# Altium integrated library Linear Technology Power Management uModule Regulators.IntLib: 166 symbols (part 20 of 67)
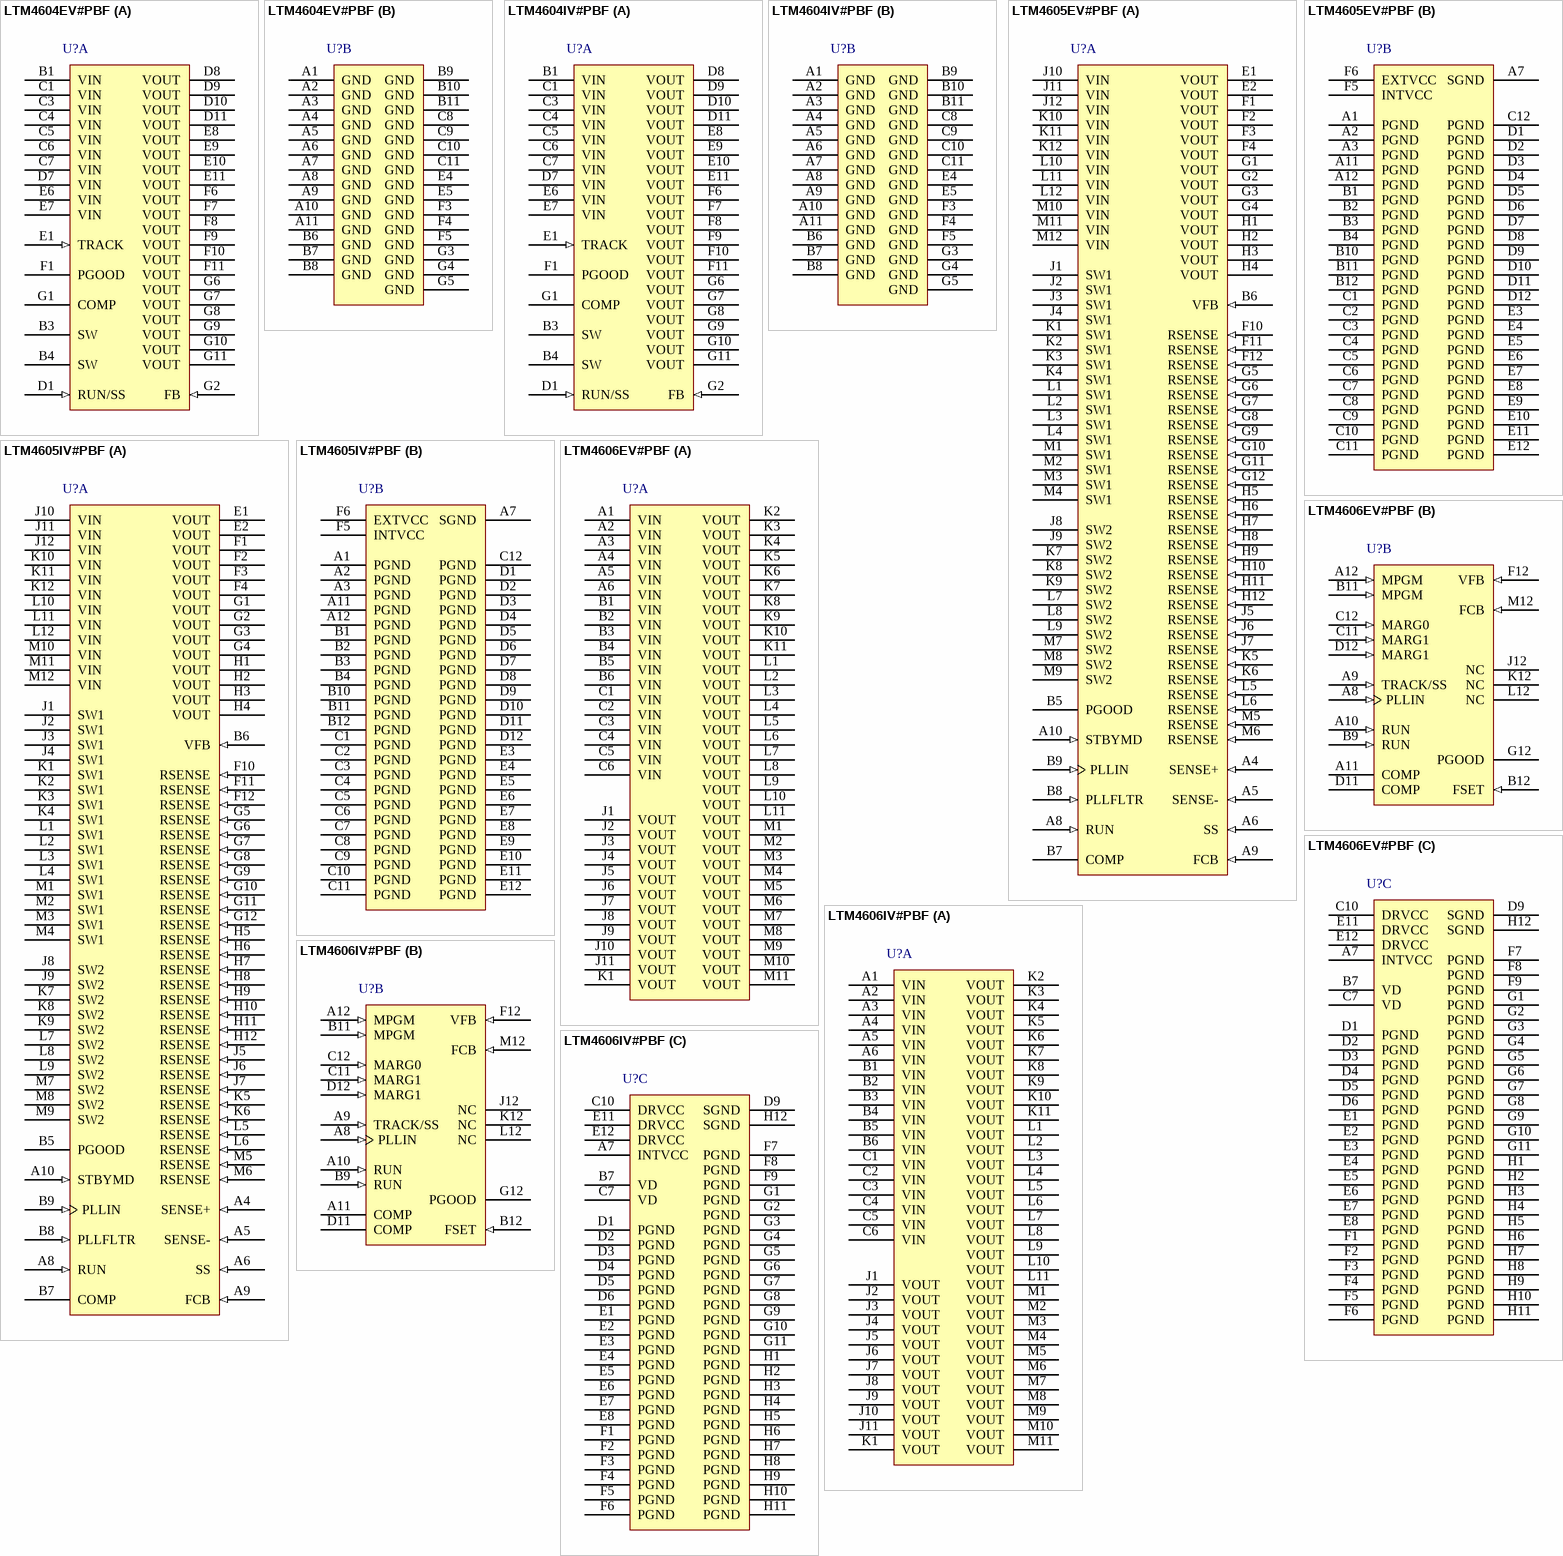
[diagram p46: symbols LTM4604EV#PBF to LTM4606IV#PBF]

## LTM4606IV#PBF
designator U?
Ultralow EMI 28 VIN, 6 A DC/DC uModule Regulator, 133-pin LGA, -40 to 125 degC, Pb-Free, Tray; Manufacturer: Linear Technology; PartNumber: LTM4606IV#PBF; Extended Temp: E, I, MP; Frequency Sync Range: 650kHz - 1MHz; Frequency(kHz): 800; Ishutdown(uA): 22; Isupply(mA): 1.5; Number of Outputs: 1; Output Current(A): 6; Switch Current(A): 10; Synchronous: yes; Topology: Buck; Tracking: no; Vin Max(V): 28; Vin Min(V): 4.5; Vout Max(V): 5; Vout Min(V): 0.6; DatasheetVersion: Rev. B; PackageVersion: Rev. A, 02/2013; PackageReference: LGA-133; PackageDescription: 133-Pin LGA, Body 15 x 15 mm, Pitch 1.27 mm; Supplier 1: Digi-Key; Supplier Part Number 1: LTM4606IV#PBF-ND; Supplier 2: Farnell; Supplier Part Number 2: 1647768; Supplier 3: Newark; Supplier Part Number 3: 02P7634; Packing: Tray; RoHS: TRUE; Mounting Technology: Surface Mount; Code_JEDEC: MO-222; ComponentLink1Description: Manufacturer URL; ComponentLink1URL: http://www.linear.com/; ComponentLink2Description: Datasheet; ComponentLink2URL: http://cds.linear.com/docs/en/datasheet/4606fb.pdf; ComponentLink3Description: Package Specification; ComponentLink3URL: http://cds.linear.com/docs/en/packaging/05081766_A_lga133.pdf
footprint LT-LGA-133-05-08-1766_V (LGA, 133-Leads, Body 15x15mm, Pitch 1.27mm)
part A pins: A1 VIN (power) "VIN (Bank 1): Power Input Pins. Apply input voltage between these pins and PGND pins. Recommend placing input decoupling capacitance directly between VIN pins and PGND pins.", A2 VIN (power) "VIN (Bank 1): Power Input Pins. Apply input voltage between these pins and PGND pins. Recommend placing input decoupling capacitance directly between VIN pins and PGND pins.", A3 VIN (power) "VIN (Bank 1): Power Input Pins. Apply input voltage between these pins and PGND pins. Recommend placing input decoupling capacitance directly between VIN pins and PGND pins.", A4 VIN (power) "VIN (Bank 1): Power Input Pins. Apply input voltage between these pins and PGND pins. Recommend placing input decoupling capacitance directly between VIN pins and PGND pins.", A5 VIN (power) "VIN (Bank 1): Power Input Pins. Apply input voltage between these pins and PGND pins. Recommend placing input decoupling capacitance directly between VIN pins and PGND pins.", A6 VIN (power) "VIN (Bank 1): Power Input Pins. Apply input voltage between these pins and PGND pins. Recommend placing input decoupling capacitance directly between VIN pins and PGND pins.", B1 VIN (power) "VIN (Bank 1): Power Input Pins. Apply input voltage between these pins and PGND pins. Recommend placing input decoupling capacitance directly between VIN pins and PGND pins.", B2 VIN (power) "VIN (Bank 1): Power Input Pins. Apply input voltage between these pins and PGND pins. Recommend placing input decoupling capacitance directly between VIN pins and PGND pins.", B3 VIN (power) "VIN (Bank 1): Power Input Pins. Apply input voltage between these pins and PGND pins. Recommend placing input decoupling capacitance directly between VIN pins and PGND pins.", B4 VIN (power) "VIN (Bank 1): Power Input Pins. Apply input voltage between these pins and PGND pins. Recommend placing input decoupling capacitance directly between VIN pins and PGND pins.", B5 VIN (power) "VIN (Bank 1): Power Input Pins. Apply input voltage between these pins and PGND pins. Recommend placing input decoupling capacitance directly between VIN pins and PGND pins.", B6 VIN (power) "VIN (Bank 1): Power Input Pins. Apply input voltage between these pins and PGND pins. Recommend placing input decoupling capacitance directly between VIN pins and PGND pins.", C1 VIN (power) "VIN (Bank 1): Power Input Pins. Apply input voltage between these pins and PGND pins. Recommend placing input decoupling capacitance directly between VIN pins and PGND pins.", C2 VIN (power) "VIN (Bank 1): Power Input Pins. Apply input voltage between these pins and PGND pins. Recommend placing input decoupling capacitance directly between VIN pins and PGND pins.", C3 VIN (power) "VIN (Bank 1): Power Input Pins. Apply input voltage between these pins and PGND pins. Recommend placing input decoupling capacitance directly between VIN pins and PGND pins.", C4 VIN (power) "VIN (Bank 1): Power Input Pins. Apply input voltage between these pins and PGND pins. Recommend placing input decoupling capacitance directly between VIN pins and PGND pins.", C5 VIN (power) "VIN (Bank 1): Power Input Pins. Apply input voltage between these pins and PGND pins. Recommend placing input decoupling capacitance directly between VIN pins and PGND pins.", C6 VIN (power) "VIN (Bank 1): Power Input Pins. Apply input voltage between these pins and PGND pins. Recommend placing input decoupling capacitance directly between VIN pins and PGND pins.", J1 VOUT (power) "VOUT (Bank 3): Power Output Pins. Apply output load between these pins and PGND pins. Recommend placing output decoupling capacitance directly between these pins and PGND pins (see figure below).", J2 VOUT (power) "VOUT (Bank 3): Power Output Pins. Apply output load between these pins and PGND pins. Recommend placing output decoupling capacitance directly between these pins and PGND pins (see figure below).", J3 VOUT (power) "VOUT (Bank 3): Power Output Pins. Apply output load between these pins and PGND pins. Recommend placing output decoupling capacitance directly between these pins and PGND pins (see figure below).", J4 VOUT (power) "VOUT (Bank 3): Power Output Pins. Apply output load between these pins and PGND pins. Recommend placing output decoupling capacitance directly between these pins and PGND pins (see figure below).", J5 VOUT (power) "VOUT (Bank 3): Power Output Pins. Apply output load between these pins and PGND pins. Recommend placing output decoupling capacitance directly between these pins and PGND pins (see figure below).", J6 VOUT (power) "VOUT (Bank 3): Power Output Pins. Apply output load between these pins and PGND pins. Recommend placing output decoupling capacitance directly between these pins and PGND pins (see figure below).", J7 VOUT (power) "VOUT (Bank 3): Power Output Pins. Apply output load between these pins and PGND pins. Recommend placing output decoupling capacitance directly between these pins and PGND pins (see figure below).", J8 VOUT (power) "VOUT (Bank 3): Power Output Pins. Apply output load between these pins and PGND pins. Recommend placing output decoupling capacitance directly between these pins and PGND pins (see figure below).", J9 VOUT (power) "VOUT (Bank 3): Power Output Pins. Apply output load between these pins and PGND pins. Recommend placing output decoupling capacitance directly between these pins and PGND pins (see figure below).", J10 VOUT (power) "VOUT (Bank 3): Power Output Pins. Apply output load between these pins and PGND pins. Recommend placing output decoupling capacitance directly between these pins and PGND pins (see figure below).", J11 VOUT (power) "VOUT (Bank 3): Power Output Pins. Apply output load between these pins and PGND pins. Recommend placing output decoupling capacitance directly between these pins and PGND pins (see figure below).", K1 VOUT (power) "VOUT (Bank 3): Power Output Pins. Apply output load between these pins and PGND pins. Recommend placing output decoupling capacitance directly between these pins and PGND pins (see figure below).", K2 VOUT (power) "VOUT (Bank 3): Power Output Pins. Apply output load between these pins and PGND pins. Recommend placing output decoupling capacitance directly between these pins and PGND pins (see figure below).", K3 VOUT (power) "VOUT (Bank 3): Power Output Pins. Apply output load between these pins and PGND pins. Recommend placing output decoupling capacitance directly between these pins and PGND pins (see figure below).", K4 VOUT (power) "VOUT (Bank 3): Power Output Pins. Apply output load between these pins and PGND pins. Recommend placing output decoupling capacitance directly between these pins and PGND pins (see figure below).", K5 VOUT (power) "VOUT (Bank 3): Power Output Pins. Apply output load between these pins and PGND pins. Recommend placing output decoupling capacitance directly between these pins and PGND pins (see figure below).", K6 VOUT (power) "VOUT (Bank 3): Power Output Pins. Apply output load between these pins and PGND pins. Recommend placing output decoupling capacitance directly between these pins and PGND pins (see figure below).", K7 VOUT (power) "VOUT (Bank 3): Power Output Pins. Apply output load between these pins and PGND pins. Recommend placing output decoupling capacitance directly between these pins and PGND pins (see figure below).", K8 VOUT (power) "VOUT (Bank 3): Power Output Pins. Apply output load between these pins and PGND pins. Recommend placing output decoupling capacitance directly between these pins and PGND pins (see figure below).", K9 VOUT (power) "VOUT (Bank 3): Power Output Pins. Apply output load between these pins and PGND pins. Recommend placing output decoupling capacitance directly between these pins and PGND pins (see figure below).", K10 VOUT (power) "VOUT (Bank 3): Power Output Pins. Apply output load between these pins and PGND pins. Recommend placing output decoupling capacitance directly between these pins and PGND pins (see figure below).", K11 VOUT (power) "VOUT (Bank 3): Power Output Pins. Apply output load between these pins and PGND pins. Recommend placing output decoupling capacitance directly between these pins and PGND pins (see figure below).", L1 VOUT (power) "VOUT (Bank 3): Power Output Pins. Apply output load between these pins and PGND pins. Recommend placing output decoupling capacitance directly between these pins and PGND pins (see figure below).", L2 VOUT (power) "VOUT (Bank 3): Power Output Pins. Apply output load between these pins and PGND pins. Recommend placing output decoupling capacitance directly between these pins and PGND pins (see figure below).", L3 VOUT (power) "VOUT (Bank 3): Power Output Pins. Apply output load between these pins and PGND pins. Recommend placing output decoupling capacitance directly between these pins and PGND pins (see figure below).", L4 VOUT (power) "VOUT (Bank 3): Power Output Pins. Apply output load between these pins and PGND pins. Recommend placing output decoupling capacitance directly between these pins and PGND pins (see figure below).", L5 VOUT (power) "VOUT (Bank 3): Power Output Pins. Apply output load between these pins and PGND pins. Recommend placing output decoupling capacitance directly between these pins and PGND pins (see figure below).", L6 VOUT (power) "VOUT (Bank 3): Power Output Pins. Apply output load between these pins and PGND pins. Recommend placing output decoupling capacitance directly between these pins and PGND pins (see figure below).", L7 VOUT (power) "VOUT (Bank 3): Power Output Pins. Apply output load between these pins and PGND pins. Recommend placing output decoupling capacitance directly between these pins and PGND pins (see figure below).", L8 VOUT (power) "VOUT (Bank 3): Power Output Pins. Apply output load between these pins and PGND pins. Recommend placing output decoupling capacitance directly between these pins and PGND pins (see figure below).", L9 VOUT (power) "VOUT (Bank 3): Power Output Pins. Apply output load between these pins and PGND pins. Recommend placing output decoupling capacitance directly between these pins and PGND pins (see figure below).", L10 VOUT (power) "VOUT (Bank 3): Power Output Pins. Apply output load between these pins and PGND pins. Recommend placing output decoupling capacitance directly between these pins and PGND pins (see figure below).", L11 VOUT (power) "VOUT (Bank 3): Power Output Pins. Apply output load between these pins and PGND pins. Recommend placing output decoupling capacitance directly between these pins and PGND pins (see figure below).", M1 VOUT (power) "VOUT (Bank 3): Power Output Pins. Apply output load between these pins and PGND pins. Recommend placing output decoupling capacitance directly between these pins and PGND pins (see figure below).", M2 VOUT (power) "VOUT (Bank 3): Power Output Pins. Apply output load between these pins and PGND pins. Recommend placing output decoupling capacitance directly between these pins and PGND pins (see figure below).", M3 VOUT (power) "VOUT (Bank 3): Power Output Pins. Apply output load between these pins and PGND pins. Recommend placing output decoupling capacitance directly between these pins and PGND pins (see figure below).", M4 VOUT (power) "VOUT (Bank 3): Power Output Pins. Apply output load between these pins and PGND pins. Recommend placing output decoupling capacitance directly between these pins and PGND pins (see figure below).", M5 VOUT (power) "VOUT (Bank 3): Power Output Pins. Apply output load between these pins and PGND pins. Recommend placing output decoupling capacitance directly between these pins and PGND pins (see figure below).", M6 VOUT (power) "VOUT (Bank 3): Power Output Pins. Apply output load between these pins and PGND pins. Recommend placing output decoupling capacitance directly between these pins and PGND pins (see figure below).", M7 VOUT (power) "VOUT (Bank 3): Power Output Pins. Apply output load between these pins and PGND pins. Recommend placing output decoupling capacitance directly between these pins and PGND pins (see figure below).", M8 VOUT (power) "VOUT (Bank 3): Power Output Pins. Apply output load between these pins and PGND pins. Recommend placing output decoupling capacitance directly between these pins and PGND pins (see figure below).", M9 VOUT (power) "VOUT (Bank 3): Power Output Pins. Apply output load between these pins and PGND pins. Recommend placing output decoupling capacitance directly between these pins and PGND pins (see figure below).", M10 VOUT (power) "VOUT (Bank 3): Power Output Pins. Apply output load between these pins and PGND pins. Recommend placing output decoupling capacitance directly between these pins and PGND pins (see figure below).", M11 VOUT (power) "VOUT (Bank 3): Power Output Pins. Apply output load between these pins and PGND pins. Recommend placing output decoupling capacitance directly between these pins and PGND pins (see figure below)."
part B pins: A8 PLLIN (in) "PLLIN (Pin A8): External Clock Synchronization Input to the Phase Detector. This pin is internally terminated to SGND with a 50k resistor. Apply a clock with high level above 2V and below INTVCC. See the Applications (See Datasheet)", A9 TRACK/SS (in) "Output Voltage Tracking and Soft-Start Pin. When the module is configured as a master output, then a soft-start capacitor is placed on this pin to ground to control the master ramp rate. A soft-start capacitor can be used (See Datasheet)", A10 RUN (in) "RUN (Pins A10, B9): Run Control Pins. A voltage above 1.9V will turn on the module, and below 1V will turn off the module. A programmable UVLO function can be accomplished with a resistor from VIN to this pin that has a 5.1V (See Datasheet)", A11 COMP "COMP (Pins A11, D11): Current Control Threshold and Error Amplifier Compensation Point. The current comparator threshold increases with this control voltage. The voltage ranges from 0V to 2.4V with 0.7V corresponding to zero (See Datasheet)", A12 MPGM (in) "MPGM (Pins A12, B11): Programmable Margining Input. A resistor from these pins to ground sets a current that is equal to 1.18V/R. This current multiplied by 10kW will equal a value in millivolts that is a percentage of the 0.(See Datasheet)", B9 RUN (in) "RUN (Pins A10, B9): Run Control Pins. A voltage above 1.9V will turn on the module, and below 1V will turn off the module. A programmable UVLO function can be accomplished with a resistor from VIN to this pin that has a 5.1V (See Datasheet)", B11 MPGM (in) "MPGM (Pins A12, B11): Programmable Margining Input. A resistor from these pins to ground sets a current that is equal to 1.18V/R. This current multiplied by 10kW will equal a value in millivolts that is a percentage of the 0.(See Datasheet)", B12 FSET (in) "fSET (Pin B12): Frequency set internally to 800kHz in continuous conducting mode at light load. An external resistor can be placed from this pin to ground to increase frequency. This pin can be decoupled with a 1000pF (See Datasheet)", C11 MARG1 (in) "MARG1 (Pins C11, D12): MSB Logic Input for the Margining Function. Together with the MARG0 pin, the MARG1 pins will determine if a margin high, margin low, or no margin state is applied. The pins have an internal pull-down (See Datasheet)", C12 MARG0 (in) "MARG0 (Pin C12): LSB Logic Input for the Margining Function. Together with the MARG1 pin, the MARG0 pin will determine if a margin high, margin low, or no margin state is applied. The pin has an internal pulldown resistor of (See Datasheet)", D11 COMP "COMP (Pins A11, D11): Current Control Threshold and Error Amplifier Compensation Point. The current comparator threshold increases with this control voltage. The voltage ranges from 0V to 2.4V with 0.7V corresponding to zero (See Datasheet)", D12 MARG1 (in) "MARG1 (Pins C11, D12): MSB Logic Input for the Margining Function. Together with the MARG0 pin, the MARG1 pins will determine if a margin high, margin low, or no margin state is applied. The pins have an internal pull-down (See Datasheet)", F12 VFB (in) "VFB (Pin F12): The Negative Input of the Error Amplifier. Internally, this pin is connected to VOUT with a 60.4k precision resistor. Different output voltages can be programmed with an additional resistor between the VFB and (See Datasheet)", G12 PGOOD (oc) "PGOOD (Pin G12): Output Voltage Power Good Indicator. Open-drain logic output that is pulled to ground when the output voltage is not within +/-10% of the regulation point, after a 25us power bad mask timer expires.", J12 NC "NC (Pins J12, K12, L12): These pads must be left floating (electrical open circuit) and are used for increased solder integrity strength.", K12 NC "NC (Pins J12, K12, L12): These pads must be left floating (electrical open circuit) and are used for increased solder integrity strength.", L12 NC "NC (Pins J12, K12, L12): These pads must be left floating (electrical open circuit) and are used for increased solder integrity strength.", M12 FCB (in) "FCB (Pin M12): Forced Continuous Input. Connect this pin to SGND to force continuous synchronization operation at low load, to INTVCC to enable discontinuous mode operation at low load or to a resistive divider from a (See Datasheet)"
part C pins: A7 INTVCC (power) "INTVCC (Pin A7): This pin is for additional decoupling of the 5V internal regulator.", B7 VD (power) "VD (Pins B7, C7): Top FET Drain Pins. Add more capacitors between VD and ground to handle the input RMS current and reduce the input ripple further.", C7 VD (power) "VD (Pins B7, C7): Top FET Drain Pins. Add more capacitors between VD and ground to handle the input RMS current and reduce the input ripple further.", C10 DRVCC (power) "DRVCC (Pins C10, E11, E12): These pins normally connect to INTVCC for powering the internal MOSFET drivers. They can be biased up to 6V from an external supply with about 50mA capability, or an external circuit as shown in (See Datasheet)", D1 PGND (power) "PGND (Bank 2): Power Ground Pins for Both Input and Output Returns.", D2 PGND (power) "PGND (Bank 2): Power Ground Pins for Both Input and Output Returns.", D3 PGND (power) "PGND (Bank 2): Power Ground Pins for Both Input and Output Returns.", D4 PGND (power) "PGND (Bank 2): Power Ground Pins for Both Input and Output Returns.", D5 PGND (power) "PGND (Bank 2): Power Ground Pins for Both Input and Output Returns.", D6 PGND (power) "PGND (Bank 2): Power Ground Pins for Both Input and Output Returns.", D9 SGND (power) "SGND (Pins D9, H12): Signal Ground Pins. These pins connect to PGND at output capacitor point.", E1 PGND (power) "PGND (Bank 2): Power Ground Pins for Both Input and Output Returns.", E2 PGND (power) "PGND (Bank 2): Power Ground Pins for Both Input and Output Returns.", E3 PGND (power) "PGND (Bank 2): Power Ground Pins for Both Input and Output Returns.", E4 PGND (power) "PGND (Bank 2): Power Ground Pins for Both Input and Output Returns.", E5 PGND (power) "PGND (Bank 2): Power Ground Pins for Both Input and Output Returns.", E6 PGND (power) "PGND (Bank 2): Power Ground Pins for Both Input and Output Returns.", E7 PGND (power) "PGND (Bank 2): Power Ground Pins for Both Input and Output Returns.", E8 PGND (power) "PGND (Bank 2): Power Ground Pins for Both Input and Output Returns.", E11 DRVCC (power) "DRVCC (Pins C10, E11, E12): These pins normally connect to INTVCC for powering the internal MOSFET drivers. They can be biased up to 6V from an external supply with about 50mA capability, or an external circuit as shown in (See Datasheet)", E12 DRVCC (power) "DRVCC (Pins C10, E11, E12): These pins normally connect to INTVCC for powering the internal MOSFET drivers. They can be biased up to 6V from an external supply with about 50mA capability, or an external circuit as shown in (See Datasheet)", F1 PGND (power) "PGND (Bank 2): Power Ground Pins for Both Input and Output Returns.", F2 PGND (power) "PGND (Bank 2): Power Ground Pins for Both Input and Output Returns.", F3 PGND (power) "PGND (Bank 2): Power Ground Pins for Both Input and Output Returns.", F4 PGND (power) "PGND (Bank 2): Power Ground Pins for Both Input and Output Returns.", F5 PGND (power) "PGND (Bank 2): Power Ground Pins for Both Input and Output Returns.", F6 PGND (power) "PGND (Bank 2): Power Ground Pins for Both Input and Output Returns.", F7 PGND (power) "PGND (Bank 2): Power Ground Pins for Both Input and Output Returns.", F8 PGND (power) "PGND (Bank 2): Power Ground Pins for Both Input and Output Returns.", F9 PGND (power) "PGND (Bank 2): Power Ground Pins for Both Input and Output Returns.", G1 PGND (power) "PGND (Bank 2): Power Ground Pins for Both Input and Output Returns.", G2 PGND (power) "PGND (Bank 2): Power Ground Pins for Both Input and Output Returns.", G3 PGND (power) "PGND (Bank 2): Power Ground Pins for Both Input and Output Returns.", G4 PGND (power) "PGND (Bank 2): Power Ground Pins for Both Input and Output Returns.", G5 PGND (power) "PGND (Bank 2): Power Ground Pins for Both Input and Output Returns.", G6 PGND (power) "PGND (Bank 2): Power Ground Pins for Both Input and Output Returns.", G7 PGND (power) "PGND (Bank 2): Power Ground Pins for Both Input and Output Returns.", G8 PGND (power) "PGND (Bank 2): Power Ground Pins for Both Input and Output Returns.", G9 PGND (power) "PGND (Bank 2): Power Ground Pins for Both Input and Output Returns.", G10 PGND (power) "PGND (Bank 2): Power Ground Pins for Both Input and Output Returns.", G11 PGND (power) "PGND (Bank 2): Power Ground Pins for Both Input and Output Returns.", H1 PGND (power) "PGND (Bank 2): Power Ground Pins for Both Input and Output Returns.", H2 PGND (power) "PGND (Bank 2): Power Ground Pins for Both Input and Output Returns.", H3 PGND (power) "PGND (Bank 2): Power Ground Pins for Both Input and Output Returns.", H4 PGND (power) "PGND (Bank 2): Power Ground Pins for Both Input and Output Returns.", H5 PGND (power) "PGND (Bank 2): Power Ground Pins for Both Input and Output Returns.", H6 PGND (power) "PGND (Bank 2): Power Ground Pins for Both Input and Output Returns.", H7 PGND (power) "PGND (Bank 2): Power Ground Pins for Both Input and Output Returns.", H8 PGND (power) "PGND (Bank 2): Power Ground Pins for Both Input and Output Returns.", H9 PGND (power) "PGND (Bank 2): Power Ground Pins for Both Input and Output Returns.", H10 PGND (power) "PGND (Bank 2): Power Ground Pins for Both Input and Output Returns.", H11 PGND (power) "PGND (Bank 2): Power Ground Pins for Both Input and Output Returns.", H12 SGND (power) "SGND (Pins D9, H12): Signal Ground Pins. These pins connect to PGND at output capacitor point."

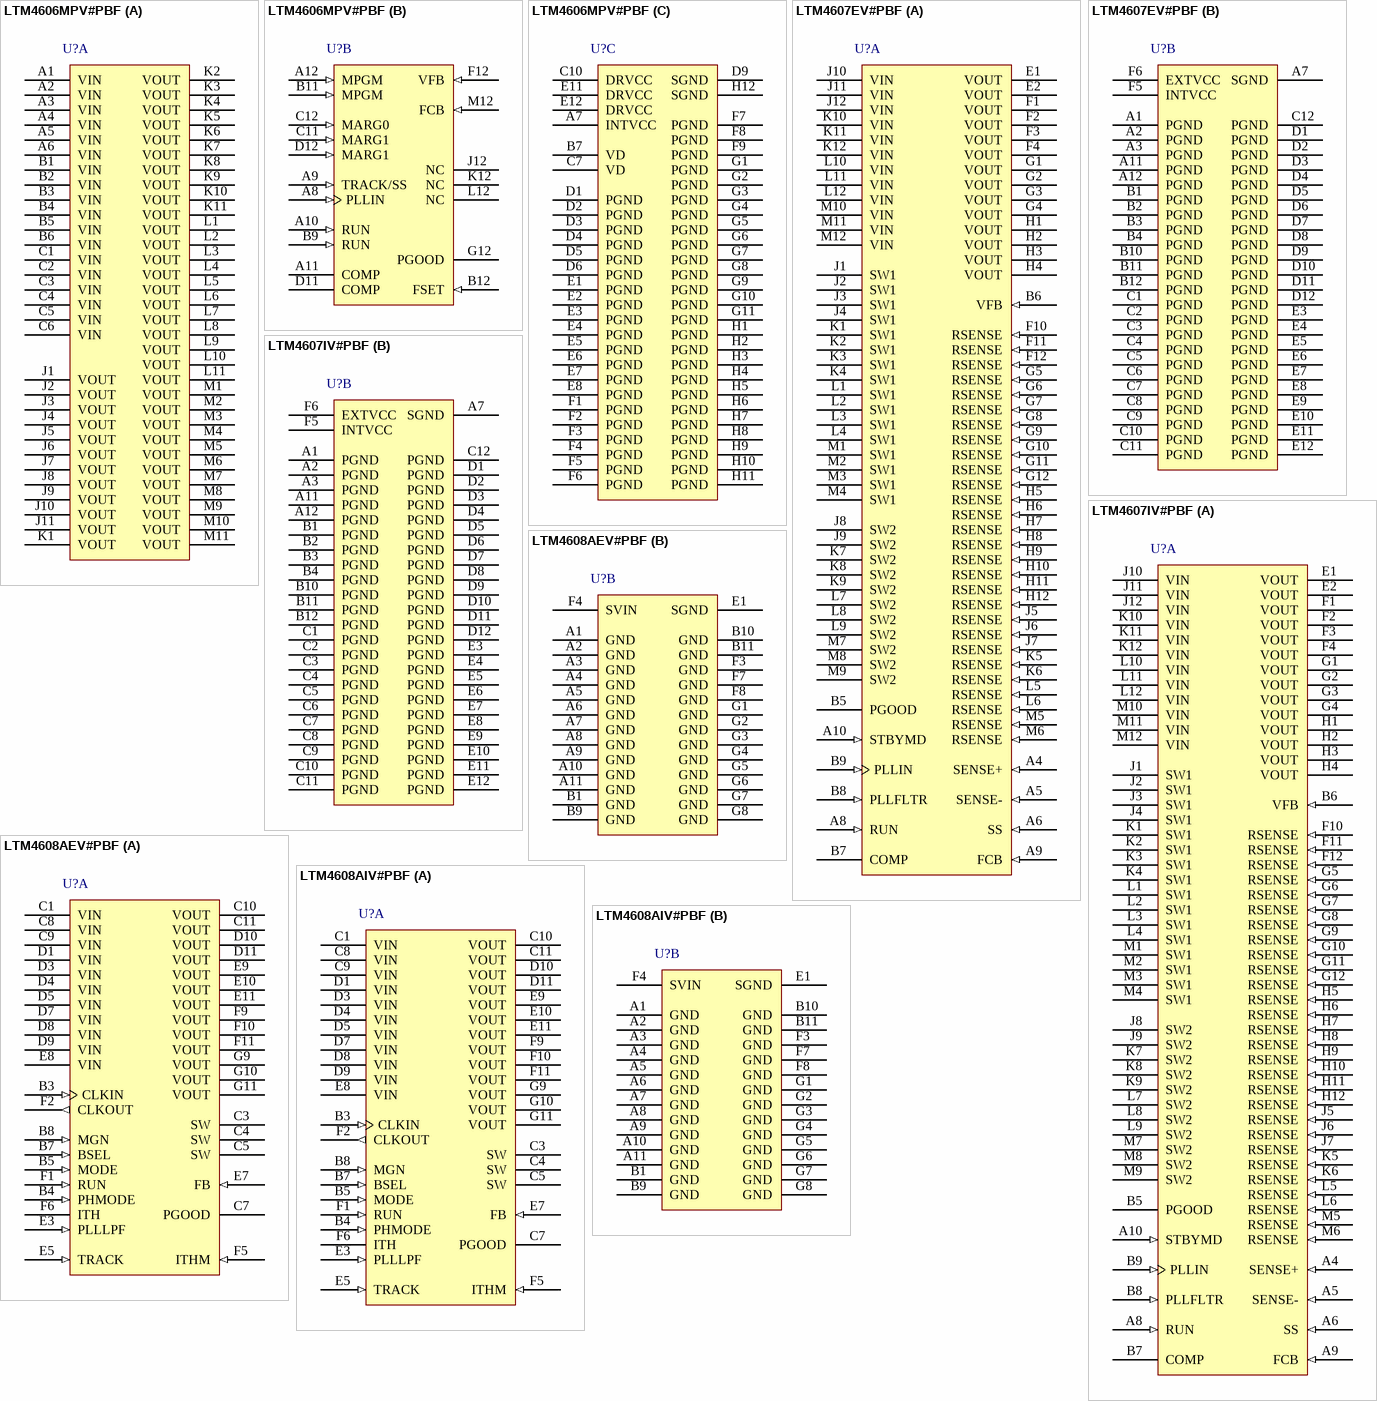
[diagram p8: symbols LTM4606MPV#PBF to LTM4608AIV#PBF]

## LTM4606MPV#PBF
designator U?
Ultralow EMI 28 VIN, 6 A DC/DC uModule Regulator, 133-pin LGA, -55 to 125 degC, Pb-Free, Tray; Manufacturer: Linear Technology; PartNumber: LTM4606MPV#PBF; Extended Temp: E, I, MP; Frequency Sync Range: 650kHz - 1MHz; Frequency(kHz): 800; Ishutdown(uA): 22; Isupply(mA): 1.5; Number of Outputs: 1; Output Current(A): 6; Switch Current(A): 10; Synchronous: yes; Topology: Buck; Tracking: no; Vin Max(V): 28; Vin Min(V): 4.5; Vout Max(V): 5; Vout Min(V): 0.6; DatasheetVersion: Rev. B; PackageVersion: Rev. A, 02/2013; PackageReference: LGA-133; PackageDescription: 133-Pin LGA, Body 15 x 15 mm, Pitch 1.27 mm; Supplier 1: Digi-Key; Supplier Part Number 1: LTM4606MPV#PBF-ND; Supplier 2: Newark; Supplier Part Number 2: 02P7635; Packing: Tray; RoHS: TRUE; Mounting Technology: Surface Mount; Code_JEDEC: MO-222; ComponentLink1Description: Manufacturer URL; ComponentLink1URL: http://www.linear.com/; ComponentLink2Description: Datasheet; ComponentLink2URL: http://cds.linear.com/docs/en/datasheet/4606fb.pdf; ComponentLink3Description: Package Specification; ComponentLink3URL: http://cds.linear.com/docs/en/packaging/05081766_A_lga133.pdf
footprint LT-LGA-133-05-08-1766_V (LGA, 133-Leads, Body 15x15mm, Pitch 1.27mm)
part A pins: A1 VIN (power) "VIN (Bank 1): Power Input Pins. Apply input voltage between these pins and PGND pins. Recommend placing input decoupling capacitance directly between VIN pins and PGND pins.", A2 VIN (power) "VIN (Bank 1): Power Input Pins. Apply input voltage between these pins and PGND pins. Recommend placing input decoupling capacitance directly between VIN pins and PGND pins.", A3 VIN (power) "VIN (Bank 1): Power Input Pins. Apply input voltage between these pins and PGND pins. Recommend placing input decoupling capacitance directly between VIN pins and PGND pins.", A4 VIN (power) "VIN (Bank 1): Power Input Pins. Apply input voltage between these pins and PGND pins. Recommend placing input decoupling capacitance directly between VIN pins and PGND pins.", A5 VIN (power) "VIN (Bank 1): Power Input Pins. Apply input voltage between these pins and PGND pins. Recommend placing input decoupling capacitance directly between VIN pins and PGND pins.", A6 VIN (power) "VIN (Bank 1): Power Input Pins. Apply input voltage between these pins and PGND pins. Recommend placing input decoupling capacitance directly between VIN pins and PGND pins.", B1 VIN (power) "VIN (Bank 1): Power Input Pins. Apply input voltage between these pins and PGND pins. Recommend placing input decoupling capacitance directly between VIN pins and PGND pins.", B2 VIN (power) "VIN (Bank 1): Power Input Pins. Apply input voltage between these pins and PGND pins. Recommend placing input decoupling capacitance directly between VIN pins and PGND pins.", B3 VIN (power) "VIN (Bank 1): Power Input Pins. Apply input voltage between these pins and PGND pins. Recommend placing input decoupling capacitance directly between VIN pins and PGND pins.", B4 VIN (power) "VIN (Bank 1): Power Input Pins. Apply input voltage between these pins and PGND pins. Recommend placing input decoupling capacitance directly between VIN pins and PGND pins.", B5 VIN (power) "VIN (Bank 1): Power Input Pins. Apply input voltage between these pins and PGND pins. Recommend placing input decoupling capacitance directly between VIN pins and PGND pins.", B6 VIN (power) "VIN (Bank 1): Power Input Pins. Apply input voltage between these pins and PGND pins. Recommend placing input decoupling capacitance directly between VIN pins and PGND pins.", C1 VIN (power) "VIN (Bank 1): Power Input Pins. Apply input voltage between these pins and PGND pins. Recommend placing input decoupling capacitance directly between VIN pins and PGND pins.", C2 VIN (power) "VIN (Bank 1): Power Input Pins. Apply input voltage between these pins and PGND pins. Recommend placing input decoupling capacitance directly between VIN pins and PGND pins.", C3 VIN (power) "VIN (Bank 1): Power Input Pins. Apply input voltage between these pins and PGND pins. Recommend placing input decoupling capacitance directly between VIN pins and PGND pins.", C4 VIN (power) "VIN (Bank 1): Power Input Pins. Apply input voltage between these pins and PGND pins. Recommend placing input decoupling capacitance directly between VIN pins and PGND pins.", C5 VIN (power) "VIN (Bank 1): Power Input Pins. Apply input voltage between these pins and PGND pins. Recommend placing input decoupling capacitance directly between VIN pins and PGND pins.", C6 VIN (power) "VIN (Bank 1): Power Input Pins. Apply input voltage between these pins and PGND pins. Recommend placing input decoupling capacitance directly between VIN pins and PGND pins.", J1 VOUT (power) "VOUT (Bank 3): Power Output Pins. Apply output load between these pins and PGND pins. Recommend placing output decoupling capacitance directly between these pins and PGND pins (see figure below).", J2 VOUT (power) "VOUT (Bank 3): Power Output Pins. Apply output load between these pins and PGND pins. Recommend placing output decoupling capacitance directly between these pins and PGND pins (see figure below).", J3 VOUT (power) "VOUT (Bank 3): Power Output Pins. Apply output load between these pins and PGND pins. Recommend placing output decoupling capacitance directly between these pins and PGND pins (see figure below).", J4 VOUT (power) "VOUT (Bank 3): Power Output Pins. Apply output load between these pins and PGND pins. Recommend placing output decoupling capacitance directly between these pins and PGND pins (see figure below).", J5 VOUT (power) "VOUT (Bank 3): Power Output Pins. Apply output load between these pins and PGND pins. Recommend placing output decoupling capacitance directly between these pins and PGND pins (see figure below).", J6 VOUT (power) "VOUT (Bank 3): Power Output Pins. Apply output load between these pins and PGND pins. Recommend placing output decoupling capacitance directly between these pins and PGND pins (see figure below).", J7 VOUT (power) "VOUT (Bank 3): Power Output Pins. Apply output load between these pins and PGND pins. Recommend placing output decoupling capacitance directly between these pins and PGND pins (see figure below).", J8 VOUT (power) "VOUT (Bank 3): Power Output Pins. Apply output load between these pins and PGND pins. Recommend placing output decoupling capacitance directly between these pins and PGND pins (see figure below).", J9 VOUT (power) "VOUT (Bank 3): Power Output Pins. Apply output load between these pins and PGND pins. Recommend placing output decoupling capacitance directly between these pins and PGND pins (see figure below).", J10 VOUT (power) "VOUT (Bank 3): Power Output Pins. Apply output load between these pins and PGND pins. Recommend placing output decoupling capacitance directly between these pins and PGND pins (see figure below).", J11 VOUT (power) "VOUT (Bank 3): Power Output Pins. Apply output load between these pins and PGND pins. Recommend placing output decoupling capacitance directly between these pins and PGND pins (see figure below).", K1 VOUT (power) "VOUT (Bank 3): Power Output Pins. Apply output load between these pins and PGND pins. Recommend placing output decoupling capacitance directly between these pins and PGND pins (see figure below).", K2 VOUT (power) "VOUT (Bank 3): Power Output Pins. Apply output load between these pins and PGND pins. Recommend placing output decoupling capacitance directly between these pins and PGND pins (see figure below).", K3 VOUT (power) "VOUT (Bank 3): Power Output Pins. Apply output load between these pins and PGND pins. Recommend placing output decoupling capacitance directly between these pins and PGND pins (see figure below).", K4 VOUT (power) "VOUT (Bank 3): Power Output Pins. Apply output load between these pins and PGND pins. Recommend placing output decoupling capacitance directly between these pins and PGND pins (see figure below).", K5 VOUT (power) "VOUT (Bank 3): Power Output Pins. Apply output load between these pins and PGND pins. Recommend placing output decoupling capacitance directly between these pins and PGND pins (see figure below).", K6 VOUT (power) "VOUT (Bank 3): Power Output Pins. Apply output load between these pins and PGND pins. Recommend placing output decoupling capacitance directly between these pins and PGND pins (see figure below).", K7 VOUT (power) "VOUT (Bank 3): Power Output Pins. Apply output load between these pins and PGND pins. Recommend placing output decoupling capacitance directly between these pins and PGND pins (see figure below).", K8 VOUT (power) "VOUT (Bank 3): Power Output Pins. Apply output load between these pins and PGND pins. Recommend placing output decoupling capacitance directly between these pins and PGND pins (see figure below).", K9 VOUT (power) "VOUT (Bank 3): Power Output Pins. Apply output load between these pins and PGND pins. Recommend placing output decoupling capacitance directly between these pins and PGND pins (see figure below).", K10 VOUT (power) "VOUT (Bank 3): Power Output Pins. Apply output load between these pins and PGND pins. Recommend placing output decoupling capacitance directly between these pins and PGND pins (see figure below).", K11 VOUT (power) "VOUT (Bank 3): Power Output Pins. Apply output load between these pins and PGND pins. Recommend placing output decoupling capacitance directly between these pins and PGND pins (see figure below).", L1 VOUT (power) "VOUT (Bank 3): Power Output Pins. Apply output load between these pins and PGND pins. Recommend placing output decoupling capacitance directly between these pins and PGND pins (see figure below).", L2 VOUT (power) "VOUT (Bank 3): Power Output Pins. Apply output load between these pins and PGND pins. Recommend placing output decoupling capacitance directly between these pins and PGND pins (see figure below).", L3 VOUT (power) "VOUT (Bank 3): Power Output Pins. Apply output load between these pins and PGND pins. Recommend placing output decoupling capacitance directly between these pins and PGND pins (see figure below).", L4 VOUT (power) "VOUT (Bank 3): Power Output Pins. Apply output load between these pins and PGND pins. Recommend placing output decoupling capacitance directly between these pins and PGND pins (see figure below).", L5 VOUT (power) "VOUT (Bank 3): Power Output Pins. Apply output load between these pins and PGND pins. Recommend placing output decoupling capacitance directly between these pins and PGND pins (see figure below).", L6 VOUT (power) "VOUT (Bank 3): Power Output Pins. Apply output load between these pins and PGND pins. Recommend placing output decoupling capacitance directly between these pins and PGND pins (see figure below).", L7 VOUT (power) "VOUT (Bank 3): Power Output Pins. Apply output load between these pins and PGND pins. Recommend placing output decoupling capacitance directly between these pins and PGND pins (see figure below).", L8 VOUT (power) "VOUT (Bank 3): Power Output Pins. Apply output load between these pins and PGND pins. Recommend placing output decoupling capacitance directly between these pins and PGND pins (see figure below).", L9 VOUT (power) "VOUT (Bank 3): Power Output Pins. Apply output load between these pins and PGND pins. Recommend placing output decoupling capacitance directly between these pins and PGND pins (see figure below).", L10 VOUT (power) "VOUT (Bank 3): Power Output Pins. Apply output load between these pins and PGND pins. Recommend placing output decoupling capacitance directly between these pins and PGND pins (see figure below).", L11 VOUT (power) "VOUT (Bank 3): Power Output Pins. Apply output load between these pins and PGND pins. Recommend placing output decoupling capacitance directly between these pins and PGND pins (see figure below).", M1 VOUT (power) "VOUT (Bank 3): Power Output Pins. Apply output load between these pins and PGND pins. Recommend placing output decoupling capacitance directly between these pins and PGND pins (see figure below).", M2 VOUT (power) "VOUT (Bank 3): Power Output Pins. Apply output load between these pins and PGND pins. Recommend placing output decoupling capacitance directly between these pins and PGND pins (see figure below).", M3 VOUT (power) "VOUT (Bank 3): Power Output Pins. Apply output load between these pins and PGND pins. Recommend placing output decoupling capacitance directly between these pins and PGND pins (see figure below).", M4 VOUT (power) "VOUT (Bank 3): Power Output Pins. Apply output load between these pins and PGND pins. Recommend placing output decoupling capacitance directly between these pins and PGND pins (see figure below).", M5 VOUT (power) "VOUT (Bank 3): Power Output Pins. Apply output load between these pins and PGND pins. Recommend placing output decoupling capacitance directly between these pins and PGND pins (see figure below).", M6 VOUT (power) "VOUT (Bank 3): Power Output Pins. Apply output load between these pins and PGND pins. Recommend placing output decoupling capacitance directly between these pins and PGND pins (see figure below).", M7 VOUT (power) "VOUT (Bank 3): Power Output Pins. Apply output load between these pins and PGND pins. Recommend placing output decoupling capacitance directly between these pins and PGND pins (see figure below).", M8 VOUT (power) "VOUT (Bank 3): Power Output Pins. Apply output load between these pins and PGND pins. Recommend placing output decoupling capacitance directly between these pins and PGND pins (see figure below).", M9 VOUT (power) "VOUT (Bank 3): Power Output Pins. Apply output load between these pins and PGND pins. Recommend placing output decoupling capacitance directly between these pins and PGND pins (see figure below).", M10 VOUT (power) "VOUT (Bank 3): Power Output Pins. Apply output load between these pins and PGND pins. Recommend placing output decoupling capacitance directly between these pins and PGND pins (see figure below).", M11 VOUT (power) "VOUT (Bank 3): Power Output Pins. Apply output load between these pins and PGND pins. Recommend placing output decoupling capacitance directly between these pins and PGND pins (see figure below)."
part B pins: A8 PLLIN (in) "PLLIN (Pin A8): External Clock Synchronization Input to the Phase Detector. This pin is internally terminated to SGND with a 50k resistor. Apply a clock with high level above 2V and below INTVCC. See the Applications (See Datasheet)", A9 TRACK/SS (in) "Output Voltage Tracking and Soft-Start Pin. When the module is configured as a master output, then a soft-start capacitor is placed on this pin to ground to control the master ramp rate. A soft-start capacitor can be used (See Datasheet)", A10 RUN (in) "RUN (Pins A10, B9): Run Control Pins. A voltage above 1.9V will turn on the module, and below 1V will turn off the module. A programmable UVLO function can be accomplished with a resistor from VIN to this pin that has a 5.1V (See Datasheet)", A11 COMP "COMP (Pins A11, D11): Current Control Threshold and Error Amplifier Compensation Point. The current comparator threshold increases with this control voltage. The voltage ranges from 0V to 2.4V with 0.7V corresponding to zero (See Datasheet)", A12 MPGM (in) "MPGM (Pins A12, B11): Programmable Margining Input. A resistor from these pins to ground sets a current that is equal to 1.18V/R. This current multiplied by 10kW will equal a value in millivolts that is a percentage of the 0.(See Datasheet)", B9 RUN (in) "RUN (Pins A10, B9): Run Control Pins. A voltage above 1.9V will turn on the module, and below 1V will turn off the module. A programmable UVLO function can be accomplished with a resistor from VIN to this pin that has a 5.1V (See Datasheet)", B11 MPGM (in) "MPGM (Pins A12, B11): Programmable Margining Input. A resistor from these pins to ground sets a current that is equal to 1.18V/R. This current multiplied by 10kW will equal a value in millivolts that is a percentage of the 0.(See Datasheet)", B12 FSET (in) "fSET (Pin B12): Frequency set internally to 800kHz in continuous conducting mode at light load. An external resistor can be placed from this pin to ground to increase frequency. This pin can be decoupled with a 1000pF (See Datasheet)", C11 MARG1 (in) "MARG1 (Pins C11, D12): MSB Logic Input for the Margining Function. Together with the MARG0 pin, the MARG1 pins will determine if a margin high, margin low, or no margin state is applied. The pins have an internal pull-down (See Datasheet)", C12 MARG0 (in) "MARG0 (Pin C12): LSB Logic Input for the Margining Function. Together with the MARG1 pin, the MARG0 pin will determine if a margin high, margin low, or no margin state is applied. The pin has an internal pulldown resistor of (See Datasheet)", D11 COMP "COMP (Pins A11, D11): Current Control Threshold and Error Amplifier Compensation Point. The current comparator threshold increases with this control voltage. The voltage ranges from 0V to 2.4V with 0.7V corresponding to zero (See Datasheet)", D12 MARG1 (in) "MARG1 (Pins C11, D12): MSB Logic Input for the Margining Function. Together with the MARG0 pin, the MARG1 pins will determine if a margin high, margin low, or no margin state is applied. The pins have an internal pull-down (See Datasheet)", F12 VFB (in) "VFB (Pin F12): The Negative Input of the Error Amplifier. Internally, this pin is connected to VOUT with a 60.4k precision resistor. Different output voltages can be programmed with an additional resistor between the VFB and (See Datasheet)", G12 PGOOD (oc) "PGOOD (Pin G12): Output Voltage Power Good Indicator. Open-drain logic output that is pulled to ground when the output voltage is not within +/-10% of the regulation point, after a 25us power bad mask timer expires.", J12 NC "NC (Pins J12, K12, L12): These pads must be left floating (electrical open circuit) and are used for increased solder integrity strength.", K12 NC "NC (Pins J12, K12, L12): These pads must be left floating (electrical open circuit) and are used for increased solder integrity strength.", L12 NC "NC (Pins J12, K12, L12): These pads must be left floating (electrical open circuit) and are used for increased solder integrity strength.", M12 FCB (in) "FCB (Pin M12): Forced Continuous Input. Connect this pin to SGND to force continuous synchronization operation at low load, to INTVCC to enable discontinuous mode operation at low load or to a resistive divider from a (See Datasheet)"
part C pins: A7 INTVCC (power) "INTVCC (Pin A7): This pin is for additional decoupling of the 5V internal regulator.", B7 VD (power) "VD (Pins B7, C7): Top FET Drain Pins. Add more capacitors between VD and ground to handle the input RMS current and reduce the input ripple further.", C7 VD (power) "VD (Pins B7, C7): Top FET Drain Pins. Add more capacitors between VD and ground to handle the input RMS current and reduce the input ripple further.", C10 DRVCC (power) "DRVCC (Pins C10, E11, E12): These pins normally connect to INTVCC for powering the internal MOSFET drivers. They can be biased up to 6V from an external supply with about 50mA capability, or an external circuit as shown in (See Datasheet)", D1 PGND (power) "PGND (Bank 2): Power Ground Pins for Both Input and Output Returns.", D2 PGND (power) "PGND (Bank 2): Power Ground Pins for Both Input and Output Returns.", D3 PGND (power) "PGND (Bank 2): Power Ground Pins for Both Input and Output Returns.", D4 PGND (power) "PGND (Bank 2): Power Ground Pins for Both Input and Output Returns.", D5 PGND (power) "PGND (Bank 2): Power Ground Pins for Both Input and Output Returns.", D6 PGND (power) "PGND (Bank 2): Power Ground Pins for Both Input and Output Returns.", D9 SGND (power) "SGND (Pins D9, H12): Signal Ground Pins. These pins connect to PGND at output capacitor point.", E1 PGND (power) "PGND (Bank 2): Power Ground Pins for Both Input and Output Returns.", E2 PGND (power) "PGND (Bank 2): Power Ground Pins for Both Input and Output Returns.", E3 PGND (power) "PGND (Bank 2): Power Ground Pins for Both Input and Output Returns.", E4 PGND (power) "PGND (Bank 2): Power Ground Pins for Both Input and Output Returns.", E5 PGND (power) "PGND (Bank 2): Power Ground Pins for Both Input and Output Returns.", E6 PGND (power) "PGND (Bank 2): Power Ground Pins for Both Input and Output Returns.", E7 PGND (power) "PGND (Bank 2): Power Ground Pins for Both Input and Output Returns.", E8 PGND (power) "PGND (Bank 2): Power Ground Pins for Both Input and Output Returns.", E11 DRVCC (power) "DRVCC (Pins C10, E11, E12): These pins normally connect to INTVCC for powering the internal MOSFET drivers. They can be biased up to 6V from an external supply with about 50mA capability, or an external circuit as shown in (See Datasheet)", E12 DRVCC (power) "DRVCC (Pins C10, E11, E12): These pins normally connect to INTVCC for powering the internal MOSFET drivers. They can be biased up to 6V from an external supply with about 50mA capability, or an external circuit as shown in (See Datasheet)", F1 PGND (power) "PGND (Bank 2): Power Ground Pins for Both Input and Output Returns.", F2 PGND (power) "PGND (Bank 2): Power Ground Pins for Both Input and Output Returns.", F3 PGND (power) "PGND (Bank 2): Power Ground Pins for Both Input and Output Returns.", F4 PGND (power) "PGND (Bank 2): Power Ground Pins for Both Input and Output Returns.", F5 PGND (power) "PGND (Bank 2): Power Ground Pins for Both Input and Output Returns.", F6 PGND (power) "PGND (Bank 2): Power Ground Pins for Both Input and Output Returns.", F7 PGND (power) "PGND (Bank 2): Power Ground Pins for Both Input and Output Returns.", F8 PGND (power) "PGND (Bank 2): Power Ground Pins for Both Input and Output Returns.", F9 PGND (power) "PGND (Bank 2): Power Ground Pins for Both Input and Output Returns.", G1 PGND (power) "PGND (Bank 2): Power Ground Pins for Both Input and Output Returns.", G2 PGND (power) "PGND (Bank 2): Power Ground Pins for Both Input and Output Returns.", G3 PGND (power) "PGND (Bank 2): Power Ground Pins for Both Input and Output Returns.", G4 PGND (power) "PGND (Bank 2): Power Ground Pins for Both Input and Output Returns.", G5 PGND (power) "PGND (Bank 2): Power Ground Pins for Both Input and Output Returns.", G6 PGND (power) "PGND (Bank 2): Power Ground Pins for Both Input and Output Returns.", G7 PGND (power) "PGND (Bank 2): Power Ground Pins for Both Input and Output Returns.", G8 PGND (power) "PGND (Bank 2): Power Ground Pins for Both Input and Output Returns.", G9 PGND (power) "PGND (Bank 2): Power Ground Pins for Both Input and Output Returns.", G10 PGND (power) "PGND (Bank 2): Power Ground Pins for Both Input and Output Returns.", G11 PGND (power) "PGND (Bank 2): Power Ground Pins for Both Input and Output Returns.", H1 PGND (power) "PGND (Bank 2): Power Ground Pins for Both Input and Output Returns.", H2 PGND (power) "PGND (Bank 2): Power Ground Pins for Both Input and Output Returns.", H3 PGND (power) "PGND (Bank 2): Power Ground Pins for Both Input and Output Returns.", H4 PGND (power) "PGND (Bank 2): Power Ground Pins for Both Input and Output Returns.", H5 PGND (power) "PGND (Bank 2): Power Ground Pins for Both Input and Output Returns.", H6 PGND (power) "PGND (Bank 2): Power Ground Pins for Both Input and Output Returns.", H7 PGND (power) "PGND (Bank 2): Power Ground Pins for Both Input and Output Returns.", H8 PGND (power) "PGND (Bank 2): Power Ground Pins for Both Input and Output Returns.", H9 PGND (power) "PGND (Bank 2): Power Ground Pins for Both Input and Output Returns.", H10 PGND (power) "PGND (Bank 2): Power Ground Pins for Both Input and Output Returns.", H11 PGND (power) "PGND (Bank 2): Power Ground Pins for Both Input and Output Returns.", H12 SGND (power) "SGND (Pins D9, H12): Signal Ground Pins. These pins connect to PGND at output capacitor point."